# EAGLE library part RASPBERRYPI (library 627)
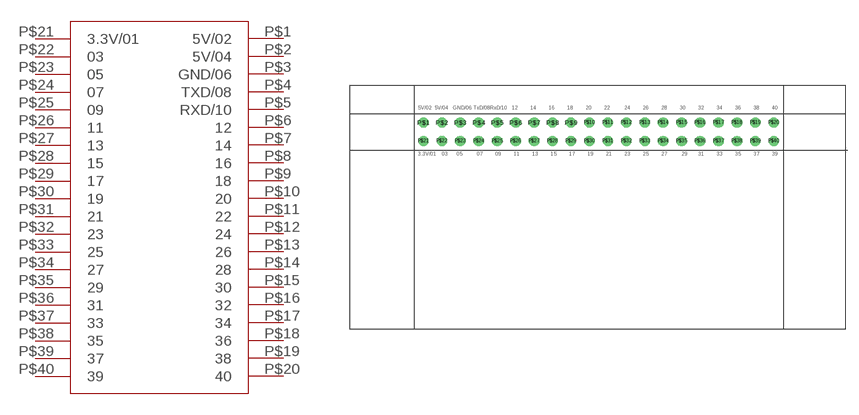
[diagram p0: symbol with the pads of RASPBERRYPI; footprint RASPBERRYPI]

Designator prefix -

## RASPBERRYPI  [RASPBERRYPI]
P$1  5V/02
P$2  5V/04
P$3  GND/06
P$4  TXD/08
P$5  RXD/10
P$6  12
P$7  14
P$8  16
P$9  18
P$10  20
P$11  22
P$12  24
P$13  26
P$14  28
P$15  30
P$16  32
P$17  34
P$18  36
P$19  38
P$20  40
P$21  3.3V/01
P$22  03
P$23  05
P$24  07
P$25  09
P$26  11
P$27  13
P$28  15
P$29  17
P$30  19
P$31  21
P$32  23
P$33  25
P$34  27
P$35  29
P$36  31
P$37  33
P$38  35
P$39  37
P$40  39

## Footprint RASPBERRYPI (pad centres in mm)
drill 0.9 pad 1.143: P$1 10.16,-5.08; P$2 12.7,-5.08; P$3 15.24,-5.08; P$4 17.78,-5.08; P$5 20.32,-5.08; P$6 22.86,-5.08; P$7 25.4,-5.08; P$8 27.94,-5.08; P$9 30.48,-5.08; P$10 33.02,-5.08; P$11 35.56,-5.08; P$12 38.1,-5.08; P$13 40.64,-5.08; P$14 43.18,-5.08; P$15 45.72,-5.08; P$16 48.26,-5.08; P$17 50.8,-5.08; P$18 53.34,-5.08; P$19 55.88,-5.08; P$20 58.42,-5.08; P$21 10.16,-7.62; P$22 12.7,-7.62; P$23 15.24,-7.62; P$24 17.78,-7.62; P$25 20.32,-7.62; P$26 22.86,-7.62; P$27 25.4,-7.62; P$28 27.94,-7.62; P$29 30.48,-7.62; P$30 33.02,-7.62; P$31 35.56,-7.62; P$32 38.1,-7.62; P$33 40.64,-7.62; P$34 43.18,-7.62; P$35 45.72,-7.62; P$36 48.26,-7.62; P$37 50.8,-7.62; P$38 53.34,-7.62; P$39 55.88,-7.62; P$40 58.42,-7.62